# Altium integrated library TLV7011DCKR.IntLib: 1 symbol
Pins are listed as number, name and electrical type; pins without a type are passive.

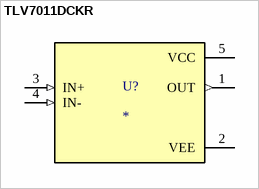
[diagram p0: symbol TLV7011DCKR]

## TLV7011DCKR
designator U?
Low power, small size comparator with push-pull output; MP: TLV7011DCKR; MF: Texas Instruments; Package: SOT-SC70-5 Texas Instruments; Availability: In Stock; Purchase-URL: https://pricing.snapeda.com/search/part/TLV7011DCKR/?ref=eda; Value: *; SnapEDA_Link: https://www.snapeda.com/parts/TLV7011DCKR/Texas+Instruments/view-part/?ref=snap; Price: None; Check_prices: https://www.snapeda.com/parts/TLV7011DCKR/Texas+Instruments/view-part/?ref=eda
footprint SOT65P210X110-5N
pins: 1 OUT (out), 2 VEE (power), 3 IN+ (in), 4 IN- (in), 5 VCC (power)